# EAGLE library part 6490XX29522_64902029522 (library WR-MPC4)
WR-MPC4 4.20 mm Male Dual Row Angled Header KIND PROPERTIES: Pitch:4.2 mm Gender:Male MATERIAL PROPERTIES: Insulator Material :PA66 Insulator Flammability Rating:UL94 V-0 Insulator Color:White Contact Material:Copper Alloy Contact Plating:Tin Contact Type:Stamped GENERAL INFORMATION Operating Temperature:-40 up to +105 °C Working Voltage:600V (AC) Withstanding Voltage:1500 V (AC) Contact Resistance:10 mΩ RISO:1000 MΩ PACKAGING PROPERTIES Packaging:Tray <https://katalog.we-online.com/media/images/v2/o33114v209%20Family_WR-MCP4_6490xx29522.jpg> Details see: https://katalog.we-online.com/en/em/MPC4_4_20_MALE_DUAL_ROW_ANGLED_HEADER_6490XX29522 Updated by Yingchun,Shan 2019-11-12 2019 (C) Würth Elektronik
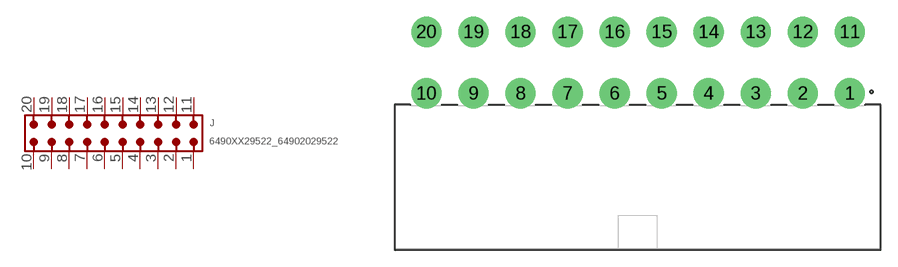
[diagram p37: symbol with the pads of 64902029522; footprint 64902029522]

Designator prefix J

## 6490XX29522_64902029522 (CONTACT-RESISTANCE: 10mOhm; DATASHEET-URL: https://www.we-online.com/catalog/datasheet/64902029522.pdf; GENDER: Male; L: 43.2mm; MATE-WITH: WR-MPC4 4.20 mm Female Dual Row Plug; MOUNT: THT; PACKAGING: Tray; PART-NUMBER: 64902029522; PCB-CABLE-PANEL: PCB; PINS: 20; PITCH: 4.2mm; ROWS: Dual; TOL-R: max.; TYPE: Right Angled; WORKING-VOLTAGE: 600V(AC))  [64902029522]
1  1  pas
2  2  pas
3  3  pas
4  4  pas
5  5  pas
6  6  pas
7  7  pas
8  8  pas
9  9  pas
10  10  pas
11  11  pas
12  12  pas
13  13  pas
14  14  pas
15  15  pas
16  16  pas
17  17  pas
18  18  pas
19  19  pas
20  20  pas

## Footprint 64902029522 (pad centres in mm)
WR-MPC4 4.20 mm Male Dual Row Angled Header,20 pins
drill 1.8: 1 18.945,7.5; 2 14.745,7.5; 3 10.545,7.5; 4 6.345,7.5; 5 2.145,7.5; 6 -2.055,7.5; 7 -6.255,7.5; 8 -10.455,7.5; 9 -14.655,7.5; 10 -18.855,7.5; 11 18.945,13; 12 14.745,13; 13 10.545,13; 14 6.345,13; 15 2.145,13; 16 -2.055,13; 17 -6.255,13; 18 -10.455,13; 19 -14.655,13; 20 -18.855,13